# Altium footprint library GY-PcbLib.PcbLib: 12 footprints
Each footprint in its own frame and in the unit in brackets; x right, y up, seen from the top. Pads: shape width x height; smd on the part's side, far side on the other; paste and mask are expansions set on the pad; w line width, h text height; cw(c..) or ccw(c..) is an arc to the next point about the centre after c.
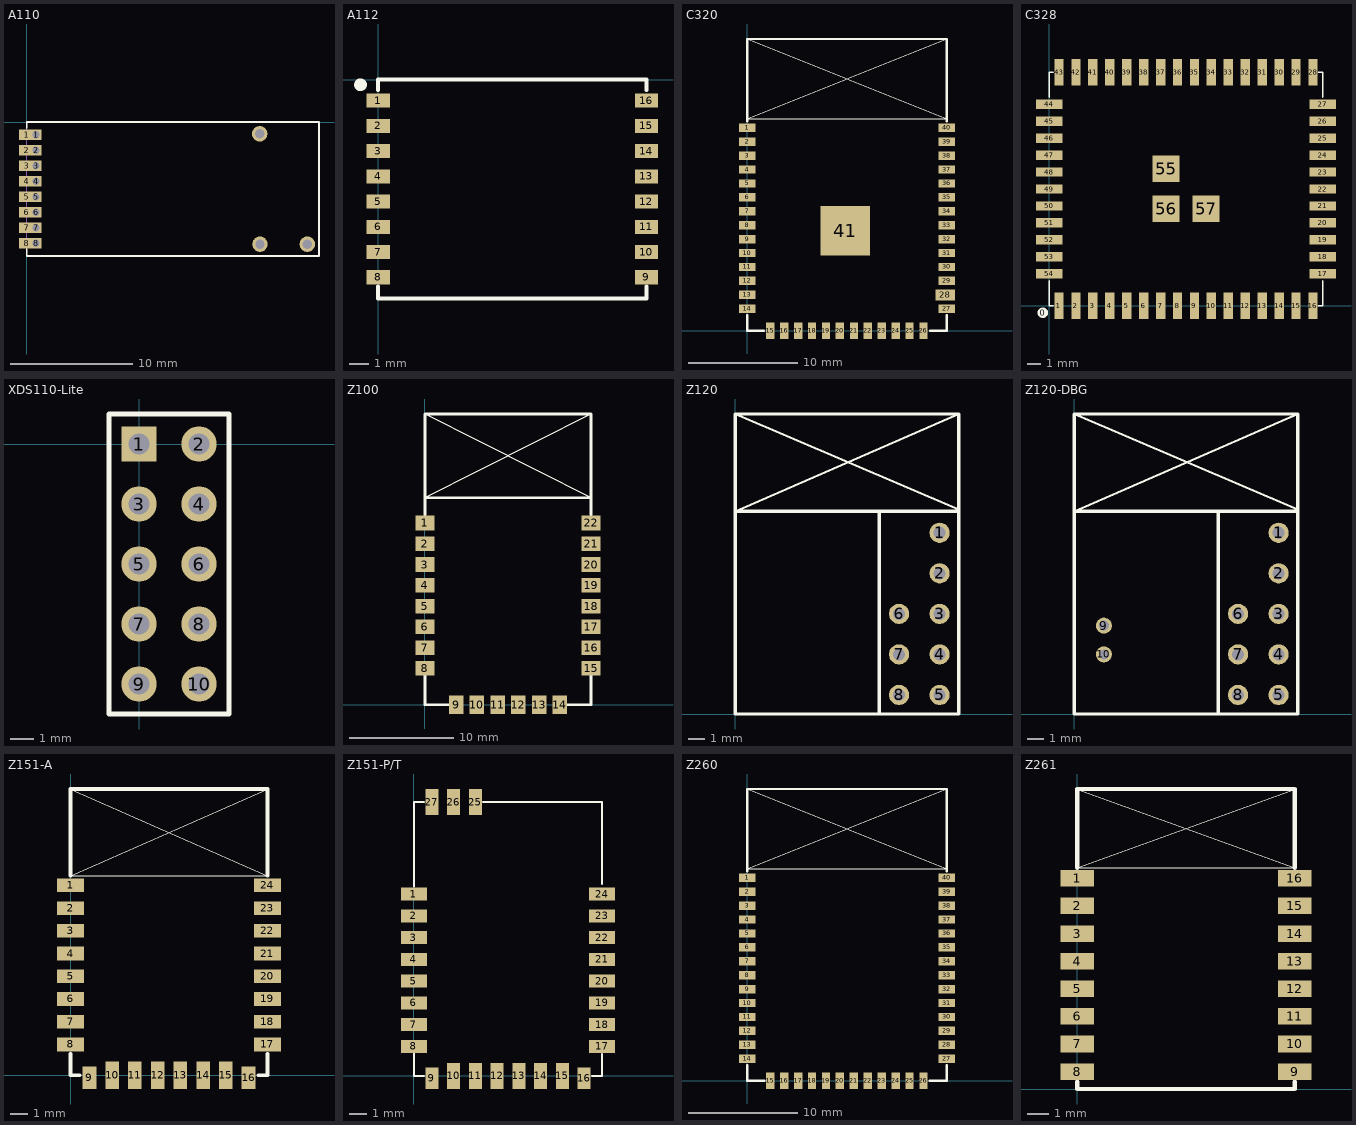
[diagram p0: the footprints below, top view; thin cyan lines are the x and y axes]

## A110 [mil] "CC1101 Module"
pads (19):
  rect 50x34 smd mask+2: 1(0,-41.5) 2(0,-91.5) 3(0,-141.5) 4(0,-191.5) 5(0,-241.5) 6(0,-291.5) 7(0,-341.5) 8(0,-391.5)
  rect 34x34 hole 24 mask+2: 1(30,-41.5) 2(30,-91.5) 3(30,-141.5) 4(30,-191.5) 5(30,-241.5) 6(30,-291.5) 7(30,-341.5) 8(30,-391.5)
  round 50 hole 30: ""(753,-38) ""(754,-395) ""(907,-395)
Top Overlay:
  lines w5: 0,-410 0,-433.07 944.88,-433.07 944.88,0 0,0 0,-20
Keep-Out Layer:
  lines w1: 0,-417.5 0,-20.5
3D body: height 78.74, standoff 1, extent 0,-433.07 944.88,0

## A112 [mil]
pads (16):
  rect 46x28 smd: 1(0,-41.5) 2(0,-91.5) 3(0,-141.5) 4(0,-191.5) 5(0,-241.5) 6(0,-291.5) 7(0,-341.5) 8(0,-391.5) 9(531.5,-391.5) 10(531.5,-341.5) 11(531.5,-291.5) 12(531.5,-241.5) 13(531.5,-191.5) 14(531.5,-141.5) 15(531.5,-91.5) 16(531.5,-41.5)
Top Overlay:
  circle w15: c-35,-10 r5
  lines w8: 0,-410 0,-433.07 531.5,-433.07 531.5,-410 ; 0,-20 0,0 531.5,0 531.5,-20
3D body: height 78.74, standoff 1, extent 0,-433.07 531.5,0

## C320 [mil]
pads (41):
  rect 60x30 smd: 1(0,728.61) 2(0,678.61) 3(0,628.61) 4(0,578.61) 5(0,528.61) 6(0,478.61) 7(0,428.61) 8(0,378.61) 9(0,328.61) 10(0,278.61) 11(0,228.61) 12(0,178.61) 13(0,128.61) 14(0,78.61) 27(716.54,78.61) 29(716.54,178.61) 30(716.54,228.61) 31(716.54,278.61) 32(716.54,328.61) 33(716.54,378.61) 34(716.54,428.61) 35(716.54,478.61) 36(716.54,528.61) 37(716.54,578.61) 38(716.54,628.61) 39(716.54,678.61) 40(716.54,728.61)
  rect 30x60 smd: 15(82.82,0) 16(132.82,0) 17(182.82,0) 18(232.82,0) 19(282.82,0) 20(332.82,0) 21(383.21,0) 22(432.82,0) 23(482.82,0) 24(532.82,0) 25(582.82,0) 26(632.82,0)
  rect 70x40 smd: 28(711.53,128.61)
  rect 177.17x177.17 smd mask+0: 41(351.64,358.17)
Top Overlay:
  lines w2: 0,1047.24 716.54,760 0,760 716.54,1047.24
  lines w8: 0,56 0,0 59,0 ; 0,751 0,1047.24 716.54,1047.24 716.54,751 ; 657,0 716.54,0 716.54,56
3D body: height 35, standoff 0, extent 0,0 716.54,1047.24

## C328 [mm]
pads (58):
  round 0.8 on Top Overlay: 0(-0.483,-0.533)
  rect 0.7x2 smd: 1(0.725,0) 2(1.995,0) 3(3.265,0) 4(4.535,0) 5(5.805,0) 6(7.075,0) 7(8.345,0) 8(9.615,0) 9(10.885,0) 10(12.155,0) 11(13.425,0) 12(14.695,0) 13(15.965,0) 14(17.235,0) 15(18.505,0) 16(19.775,0) 28(19.775,17.5) 29(18.505,17.5) 30(17.235,17.5) 31(15.965,17.5) 32(14.695,17.5) 33(13.425,17.5) 34(12.155,17.5) 35(10.885,17.5) 36(9.615,17.5) 37(8.345,17.5) 38(7.075,17.5) 39(5.805,17.5) 40(4.535,17.5) 41(3.265,17.5) 42(1.995,17.5) 43(0.725,17.5)
  rect 2x0.7 smd: 17(20.5,2.4) 18(20.5,3.67) 19(20.5,4.94) 20(20.5,6.21) 21(20.5,7.48) 22(20.5,8.75) 23(20.5,10.02) 24(20.5,11.29) 25(20.5,12.56) 26(20.5,13.83) 27(20.5,15.1) 44(0,15.1) 45(0,13.83) 46(0,12.56) 47(0,11.29) 48(0,10.02) 49(0,8.75) 50(0,7.48) 51(0,6.21) 52(0,4.94) 53(0,3.67) 54(0,2.4)
  rect 2x2 smd: 55(8.752,10.267) 56(8.752,7.267) 57(11.752,7.267)
Top Overlay:
  lines w0.127: 0,1.88 0,0 0.305,0 ; 0,15.621 0,17.5 0.305,17.5 ; 20.193,0 20.5,0 20.5,1.88 ; 20.193,17.5 20.5,17.5 20.5,15.621
3D body: height 0.89, standoff 0, extent 0,0 20.5,17.5

## XDS110-Lite [mm] "Connector; Header; 5x2 Position"
pads (10):
  rect 1.5x1.5 hole 0.9: 1(0,0)
  round 1.5 hole 0.9: 2(2.54,0) 3(0,-2.54) 4(2.54,-2.54) 5(0,-5.08) 6(2.54,-5.08) 7(0,-7.62) 8(2.54,-7.62) 9(0,-10.16) 10(2.54,-10.16)
Top Overlay:
  lines w0.2: -1.27,-11.43 3.81,-11.43 3.81,1.27 -1.27,1.27 -1.27,-11.43

## Z100 [mm]
pads (22):
  rect 1.8x1.4 smd: 1(0,17.501) 2(0,15.501) 3(0,13.501) 4(0,11.501) 5(0,9.501) 6(0,7.501) 7(0,5.501) 8(0,3.501) 15(16,3.501) 16(16,5.501) 17(16,7.501) 18(16,9.501) 19(16,11.501) 20(16,13.501) 21(16,15.501) 22(16,17.501)
  rect 1.4x1.8 smd: 9(2.997,0) 10(4.997,0) 11(6.997,0) 12(8.997,0) 13(10.997,0) 14(12.997,0)
Top Overlay:
  lines w0.127: 0,19.939 16,28 ; 0,28 16,19.939
  lines w0.254: 0,2.794 0,0 2.286,0 ; 0,18.288 0,28 16,28 16,18.29 ; 0,19.939 16,19.939 ; 13.716,0 16,0 16,2.792
3D body: height 0.51, standoff 0.03, extent 0,0 16.002,27.94

## Z120 [mil] "Z120 Module Interface"
height 200
pads (8):
  round 50 hole 30: 1(504,447) 2(504,347) 3(504,247) 4(504,147) 5(504,47) 6(404,247) 7(404,147) 8(404,47)
Top Overlay:
  lines w5: 0,500 551.18,740.16 ; 0,740.16 551.18,505
  lines w8: 0,500 551.18,500 355,500 355,0 ; 0,0 551.18,0 551.18,740.16 0,740.16 0,0

## Z120-DBG [mil] "Z120 Module Interface"
height 200
pads (10):
  round 50 hole 30: 1(504,447) 2(504,347) 3(504,247) 4(504,147) 5(504,47) 6(404,247) 7(404,147) 8(404,47)
  round 39.37 hole 25: 9(73,218) 10(73,147)
Top Overlay:
  lines w5: 0,500 551.18,740.16 ; 0,740.16 551.18,505
  lines w8: 0,500 551.18,500 355,500 355,0 ; 0,0 551.18,0 551.18,740.16 0,740.16 0,0

## Z151-A [mil] "适用型号：Z151-A,  Z151PA-A,  BLE151-A,  BLE151PA-A"
height 50
pads (24):
  rect 60x30 smd: 1(0,418) 2(0,368) 3(0,318) 4(0,268) 5(0,218) 6(0,168) 7(0,118) 8(0,68) 17(433.07,68) 18(433.07,118) 19(433.07,168) 20(433.07,218) 21(433.07,268) 22(433.07,318) 23(433.07,368) 24(433.07,418)
  rect 30x50 smd: 9(41.53,-5) 16(391.54,-5)
  rect 30x60 smd: 10(91.53,0) 11(141.53,0) 12(191.53,0) 13(241.53,0) 14(291.54,0) 15(341.54,0)
Top Overlay:
  lines w2: 0,629.92 433.07,439 0,439 433.07,629.92
  lines w8: 0,47 0,0 20,0 ; 0,439 0,629.92 433.07,629.92 433.07,439 ; 413,0 433.07,0 433.07,47
3D body: height 35, standoff 0, extent 0,0 433.07,629.92

## Z151-P/T [mil] "适用型号：Z151-P/T,  Z151PA-P/T,  BLE151-P/T,  BLE151PA-P/T"
pads (27):
  rect 60x30 smd: 1(0,418) 2(0,368) 3(0,318) 4(0,268) 5(0,218) 6(0,168) 7(0,118) 8(0,68) 17(433.07,68) 18(433.07,118) 19(433.07,168) 20(433.07,218) 21(433.07,268) 22(433.07,318) 23(433.07,368) 24(433.07,418)
  rect 30x50 smd: 9(41.53,-5) 16(391.54,-5)
  rect 30x60 smd: 10(91.53,0) 11(141.53,0) 12(191.53,0) 13(241.53,0) 14(291.54,0) 15(341.54,0) 25(141.39,629.92) 26(91.39,629.92) 27(41.39,629.92)
Top Overlay:
  lines w5: 0,53 0,0 23,0 ; 0,436 0,629.92 23.08,629.92 ; 159,629.92 433.07,629.92 433.07,442 ; 410,0 433.07,0 433.07,50.07
3D body: height 35, standoff 0, extent 0,0 433.07,629.92

## Z260 [mil]
pads (40):
  rect 60x30 smd: 1(0,728.61) 2(0,678.61) 3(0,628.61) 4(0,578.61) 5(0,528.61) 6(0,478.61) 7(0,428.61) 8(0,378.61) 9(0,328.61) 10(0,278.61) 11(0,228.61) 12(0,178.61) 13(0,128.61) 14(0,78.61) 27(716.54,78.61) 28(716.54,128.61) 29(716.54,178.61) 30(716.54,228.61) 31(716.54,278.61) 32(716.54,328.61) 33(716.54,378.61) 34(716.54,428.61) 35(716.54,478.61) 36(716.54,528.61) 37(716.54,578.61) 38(716.54,628.61) 39(716.54,678.61) 40(716.54,728.61)
  rect 30x60 smd: 15(82.82,0) 16(132.82,0) 17(182.82,0) 18(232.82,0) 19(282.82,0) 20(332.82,0) 21(382.82,0) 22(432.82,0) 23(482.82,0) 24(532.82,0) 25(582.82,0) 26(632.82,0)
Top Overlay:
  lines w2: 0,1047.24 716.54,760 0,760 716.54,1047.24
  lines w8: 0,56 0,0 61,0 ; 0,752 0,1047.24 716.54,1047.24 716.54,752 ; 655,0 716.54,0 716.54,56
3D body: height 35, standoff 0, extent 0,0 716.54,1047.24

## Z261 [mil]
pads (16):
  rect 60x30 smd: 1(0,381.5) 2(0,331.5) 3(0,281.5) 4(0,231.5) 5(0,181.5) 6(0,131.5) 7(0,81.5) 8(0,31.5) 9(393.7,31.5) 10(393.7,81.5) 11(393.7,131.5) 12(393.7,181.5) 13(393.7,231.5) 14(393.7,281.5) 15(393.7,331.5) 16(393.7,381.5)
Top Overlay:
  lines w2: 0,543.31 393.7,401 0,401 393.7,543.31
  lines w7.87: 0,13 0,0 393.7,0 393.7,13 ; 0,401 0,543.31 393.7,543.31 393.7,401
3D body: height 35, standoff 0, extent 0,0 393.7,543.31